# Altium footprint library SOT23-6_SC74A_SOT753.PcbLib: 1 footprints
Each footprint in its own frame and in the unit in brackets; x right, y up, seen from the top. Pads: shape width x height; smd on the part's side, far side on the other; paste and mask are expansions set on the pad; w line width, h text height; cw(c..) or ccw(c..) is an arc to the next point about the centre after c.
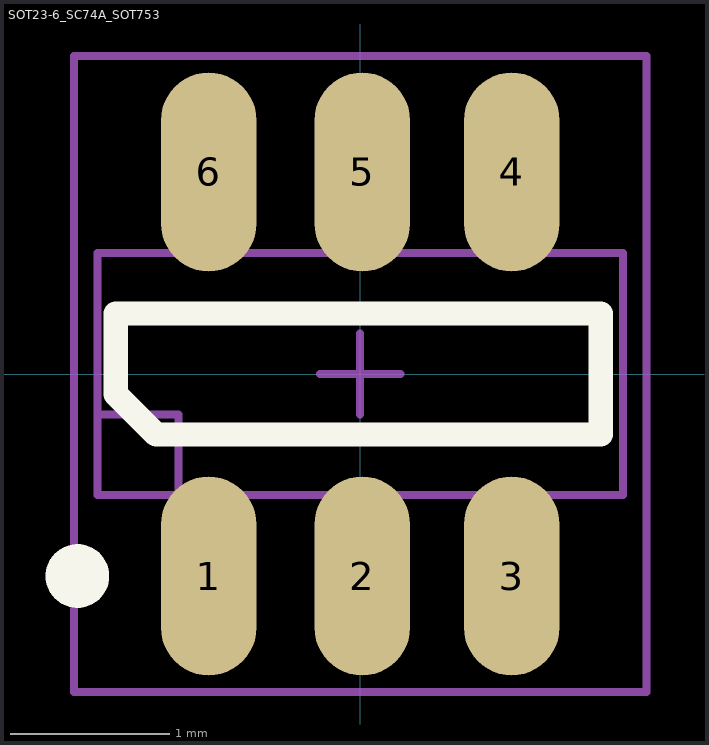
[diagram p0: the footprint, top view; thin cyan lines are the x and y axes]

## SOT23-6_SC74A_SOT753 [mm]
pads (6):
  oval 0.6x1.25 smd mask+0.05: 1(-0.953,-1.27) 2(0.013,-1.27) 3(0.953,-1.27) 4(0.953,1.27) 5(0.013,1.27) 6(-0.953,1.27)
Top Overlay:
  circle w0.2: c-1.778,-1.27 r0.1
  lines w0.152: -1.537,-0.127 -1.283,-0.381 1.511,-0.381 1.511,0.381 -1.537,0.381 -1.537,-0.127
Top Assembly:
  lines w0.05: -1.651,-0.127 -1.651,-0.762 ; -1.143,-0.762 -1.143,-0.254 -1.27,-0.254 -1.651,-0.254 -1.651,-0.762 ; -1.651,-0.762 -1.651,0.762 1.651,0.762 1.651,-0.762 -1.651,-0.762
Top Courtyard:
  lines w0.05: -0.254,0 0.254,0 ; 0,-0.254 0,0.254 ; -1.8,-2 -1.8,2 1.8,2 1.8,-2 -1.8,-2
3D body "TSOT23-6.STEP": height 1, standoff 0, extent -1.45,-1.4 1.45,1.4